# Altium footprint library S2B-EH.PcbLib: 1 footprints
Each footprint in its own frame and in the unit in brackets; x right, y up, seen from the top. Pads: shape width x height; smd on the part's side, far side on the other; paste and mask are expansions set on the pad; w line width, h text height; cw(c..) or ccw(c..) is an arc to the next point about the centre after c.
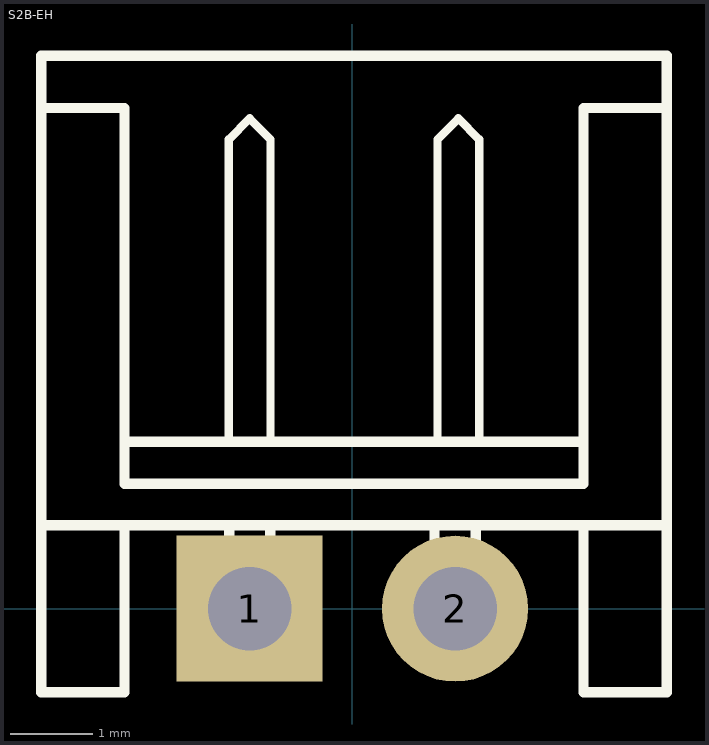
[diagram p0: the footprint, top view; thin cyan lines are the x and y axes]

## S2B-EH [mil] "EH Connector 2.5mm pitch, side entry"
height 165.35
pads (2):
  rect 70x70 hole 40: 1(-49.21,0)
  round 70 hole 40: 2(49.21,0)
TopOverlay:
  lines w4: -59.21,80 -59.21,225 -49.21,235 -39.21,225 -39.21,80 ; 40.79,80 40.79,225 50.79,235 60.79,225 60.79,80
  lines w5: -149.21,240 -109.21,240 -109.21,60 110.79,60 110.79,240 150.79,240 ; -109.21,80 110.79,80 ; -59.06,39.37 -59.06,-19.68 -39.37,-19.68 -39.37,39.37 ; 39.37,39.37 39.37,-19.68 59.06,-19.68 59.06,39.37 ; -149.21,40 -149.21,265 150.79,265 150.79,40 ; -149.21,40 -149.21,-40 -109.21,-40 -109.21,40 ; -149.21,40 -109.21,40 ; -109.21,40 110.79,40 ; 110.79,40 110.79,-40 150.79,-40 150.79,40 ; 110.79,40 150.79,40
3D body: height 165.35, standoff 0, extent -149.19,40.02 150.77,239.98
3D body: height 165.35, standoff 0, extent -149.19,-39.98 -109.23,39.98
3D body: height 165.35, standoff 0, extent -109.19,60.02 110.77,79.98
3D body: height 165.35, standoff 0, extent 110.81,-39.98 150.77,39.98
3D body: height 35.43, standoff 0, extent -149.19,80.02 150.77,264.98